# EAGLE library part TLV320AC56 (library AP8801)
VOICE BAND AUDIO PROCESSOR
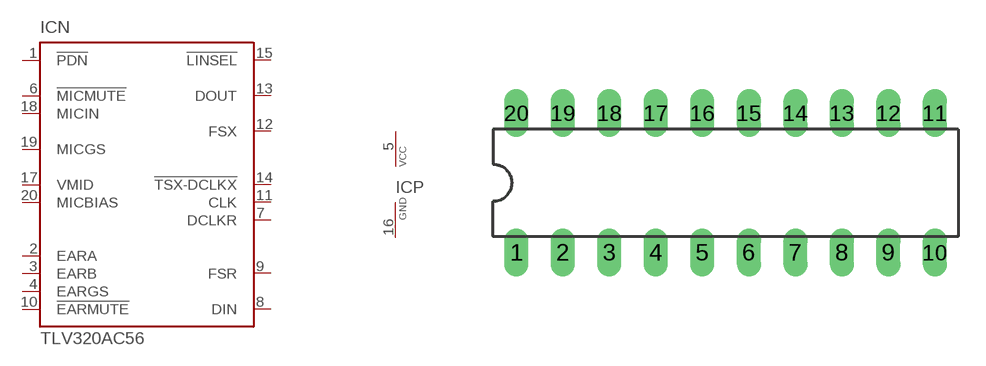
[diagram p6: symbol with the pads of DIL20; footprint DIL20]

Designator prefix IC; gates N=TLV320AC P=VCCGND

## TLV320AC56 (OC_FARNELL: unknown; OC_NEWARK: unknown)  [DIL20]
1  N:!PDN  in
2  N:EARA  out
3  N:EARB  out
4  N:EARGS  in
5  P:VCC  pwr
6  N:!MICMUTE  in
7  N:DCLKR  in
8  N:DIN  in
9  N:FSR  in
10  N:!EARMUTE  in
11  N:CLK  in
12  N:FSX  in
13  N:DOUT  out
14  N:!TSX-DCLKX
15  N:!LINSEL  in
16  P:GND  pwr
17  N:VMID  out
18  N:MICIN  in
19  N:MICGS  out
20  N:MICBIAS  out

## Footprint DIL20 (pad centres in mm)
Dual In Line Package
drill 0.813 long: 1 -11.43,-3.81; 2 -8.89,-3.81; 3 -6.35,-3.81; 4 -3.81,-3.81; 5 -1.27,-3.81; 6 1.27,-3.81; 7 3.81,-3.81; 8 6.35,-3.81; 9 8.89,-3.81; 10 11.43,-3.81; 11 11.43,3.81; 12 8.89,3.81; 13 6.35,3.81; 14 3.81,3.81; 15 1.27,3.81; 16 -1.27,3.81; 17 -3.81,3.81; 18 -6.35,3.81; 19 -8.89,3.81; 20 -11.43,3.81